# EAGLE library part OPAMPDUAL (library LARS_409_MC)
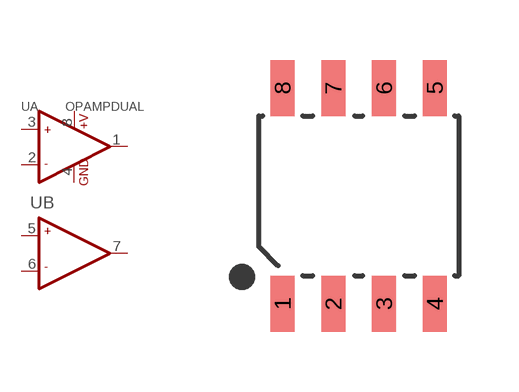
[diagram p0: symbol with the pads of SOIC-8; footprint SOIC-8]

Designator prefix U; gates A=OPAMP2 B=OPAMP1

## OPAMPDUAL  [SOIC-8]
1  A:OUT1  out
2  A:-IN1  in
3  A:+IN1  in
4  A:GND  pwr
5  B:+IN2  in
6  B:-IN2  in
7  B:OUT2  out
8  A:+V  pwr

## Footprint SOIC-8 (pad centres in mm)
smd 0.6 x 1.4: 1 -1.905,-2.7; 2 -0.635,-2.7; 3 0.635,-2.7; 4 1.905,-2.7; 5 1.905,2.7; 6 0.635,2.7; 7 -0.635,2.7; 8 -1.905,2.7